# Altium footprint library PCB - LEADED - SOIC - SI LABS SOIC-16 WIDE.PCBLIB: 1 footprints
Each footprint in its own frame and in the unit in brackets; x right, y up, seen from the top. Pads: shape width x height; smd on the part's side, far side on the other; paste and mask are expansions set on the pad; w line width, h text height; cw(c..) or ccw(c..) is an arc to the next point about the centre after c.
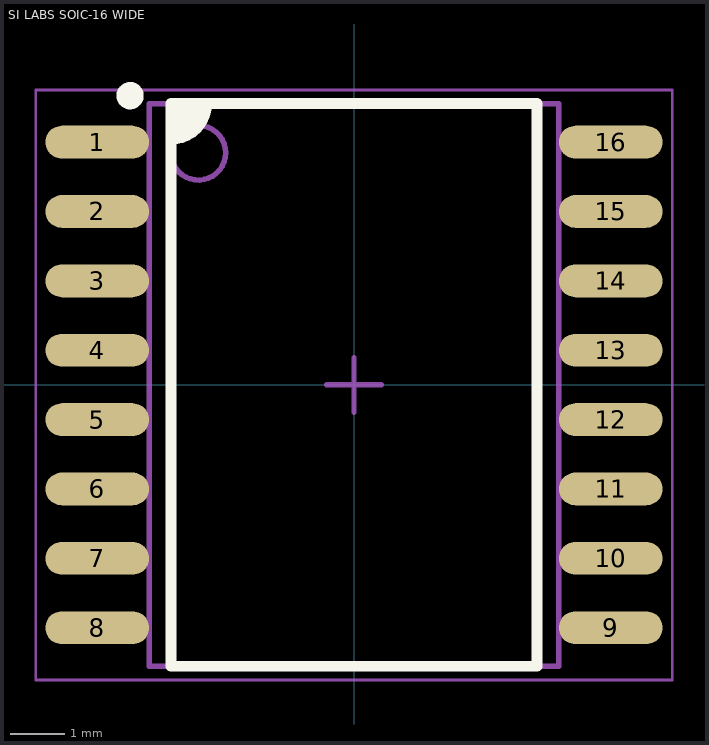
[diagram p0: the footprint, top view; thin cyan lines are the x and y axes]

## SI LABS SOIC-16 WIDE [mm] "SOIC, 16-Leads, Body 10.30x7.50mm, Pitch 1.27mm, IPC Medium Density"
height 2.65
pads (16):
  oval 1.9x0.6 smd: 1(-4.7,4.445) 2(-4.7,3.175) 3(-4.7,1.905) 4(-4.7,0.635) 5(-4.7,-0.635) 6(-4.7,-1.905) 7(-4.7,-3.175) 8(-4.7,-4.445) 9(4.7,-4.445) 10(4.7,-3.175) 11(4.7,-1.905) 12(4.7,-0.635) 13(4.7,0.635) 14(4.7,1.905) 15(4.7,3.175) 16(4.7,4.445)
Top Overlay:
  circle w0.25: c-4.1,5.295 r0.125
  region: -2.7,5.15 -2.7,4.9 -3.1,4.5 -3.35,4.5 -3.35,5.15
  lines w0.2: -2.7,5.15 cw(c-3.35,5.15) -3.35,4.5 ; -3.35,4.5 -3.35,4.5 ; -3.35,-5.15 3.35,-5.15 3.35,5.15 -3.35,5.15 -3.35,-5.15
Mechanical 13:
  circle w0.1: c-2.85,4.25 r0.5
  lines w0.1: -3.75,-5.15 -3.75,5.15 3.75,5.15 3.75,-5.15 -3.75,-5.15
Mechanical 15:
  lines w0.05: -5.825,-5.4 -5.825,5.4 5.825,5.4 5.825,-5.4 -5.825,-5.4
Mechanical 2 (Mech9):
  lines w0.1: -0.5,0 0.5,0 ; 0,-0.5 0,0.5
3D body "SOIC-16 SiLabs Wide.STEP": height 2.65, standoff 0, extent -5.164,-5.15 5.164,5.15